# EAGLE library part COLIBRI_SODIMM200_PART (library zz-m-pad-2.1)
TORADEX's <www.toradex.com> Colibri So-Dimm 200 ModuleCDRH2D18/HP Intel XScale®Based SODIMMSizedComputer Colibri is a SODIMMsized computer module based on the new Intel XScale PXA270processor. It runs at up to 520 MHz and consumes as little as 800 mW. The power consumption is optimised using the new Wireless Intel Speedstep Technology. The module delivers state of the art technology, targeting low power systems that still require high CPU performance. It also offers all the interfaces needed in a modern embedded device. The module provides glueless connectivity to passive and active LCDs with resolutions of up to 800x600, as well as 4-wire resistive touch screens. An integrated 16 bit stereo codec allows Colibri to play and recordsound. Colibri can directly connect to a CCDcamera sensor, or take advantage of the new Intel Mobile Scalable Link that offers transfer speeds of upto416Mbps. In addition Colibri offers a 100 MBit Ethernet as well as USB host and USB device functionality. Flexibility andSecondSource Colibri can be scaled to meet specific cost requirements: Assembly options are available for Ethernet, Audio Codec, FLASHsize, RAMsize and CPUspeed. The entire 32 bit wide CPU bus is available for custom extensions, such as special interfaces for high bandwidth applications. Colibri Modules can be used as a replacement for Keith &Koep's Trizeps III / IV family of modules. Colibri comes with a pre-installedoperating systemand state of the art development tools that allow an easy customization of the systemto make it fit specific needs (e.g. LCD settings & timings, integration of customer software and autostarting softwareat startup). Users can therefore concentrate on their actual application without going through the hassle of setting up an operating system. Special drivers are delivered by Toradex on request. Beside the internal Flash memory, there are plenty of interfaces available for data storage: MemoryStick, CompactFlash/PCMCIAandSDCard. Please send any comments to: messi@users.sourceforge.net
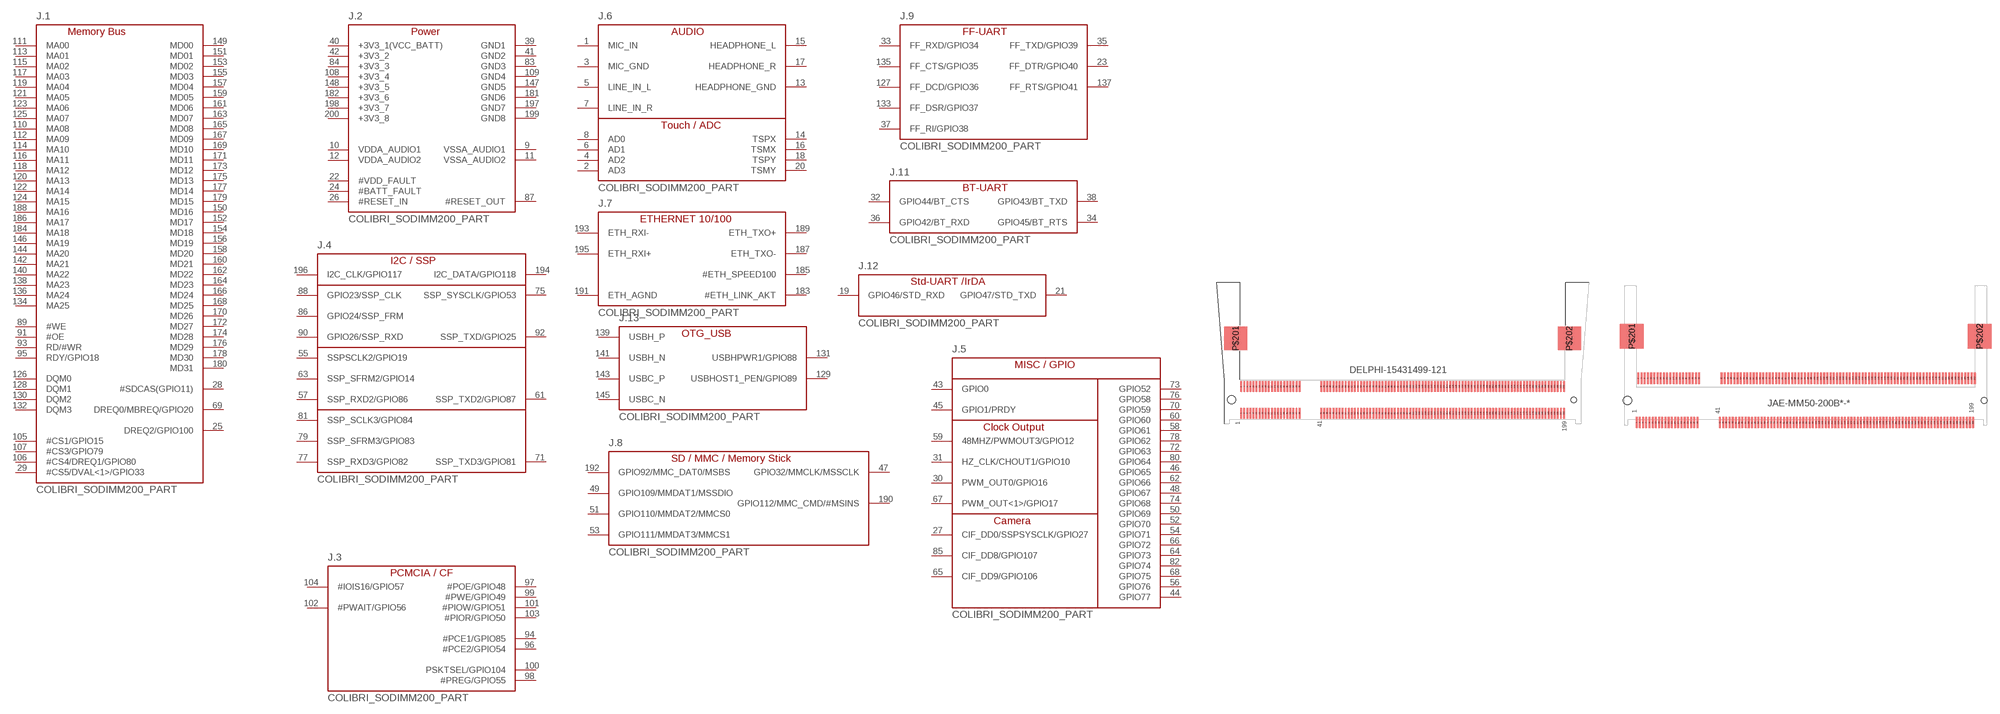
[diagram p78: symbol with the pads of SODIMM200-DELPHI; footprints SODIMM200-DELPHI, SODIMM200-JAE]

Designator prefix J; gates .2=COLIBRI_POWER .6=COLIBRI_AUDIO_TOUCH_ADC .7=COLIBRI_ETHERNET .8=COLIBRI_SD_MMC .11=COLIBRI_BT_UART .12=COLIBRI_STD_UART .3=COLIBRI_PCMCIA .1=COLIBRI_MEM .13=COLIBRI_USB .5=COLIBRI_MISC .9=COLIBRI_FF_UART .4=COLIBRI_I2C_SSP

## COLIBRI_SODIMM200_PART-DELPHI  [SODIMM200-DELPHI]
1  .6:MIC_IN  pas
2  .6:AD3  pas
3  .6:MIC_GND  pas
4  .6:AD2  pas
5  .6:LINE_IN_L  pas
6  .6:AD1  pas
7  .6:LINE_IN_R  pas
8  .6:AD0  pas
9  .2:VSSA_AUDIO1  pas
10  .2:VDDA_AUDIO1  pas
11  .2:VSSA_AUDIO2  pas
12  .2:VDDA_AUDIO2  pas
13  .6:HEADPHONE_GND  pas
14  .6:TSPX  pas
15  .6:HEADPHONE_L  pas
16  .6:TSMX  pas
17  .6:HEADPHONE_R  pas
18  .6:TSPY  pas
19  .12:GPIO46/STD_RXD  pas
20  .6:TSMY  pas
21  .12:GPIO47/STD_TXD  pas
22  .2:#VDD_FAULT  pas
23  .9:FF_DTR/GPIO40  pas
24  .2:#BATT_FAULT  pas
25  .1:DREQ2/GPIO100  pas
26  .2:#RESET_IN  pas
27  .5:CIF_DD0/SSPSYSCLK/GPIO27  pas
28  .1:#SDCAS(GPIO11)  pas
29  .1:#CS5/DVAL<1>/GPIO33  pas
30  .5:PWM_OUT0/GPIO16  pas
31  .5:HZ_CLK/CHOUT1/GPIO10  pas
32  .11:GPIO44/BT_CTS  pas
33  .9:FF_RXD/GPIO34  pas
34  .11:GPIO45/BT_RTS  pas
35  .9:FF_TXD/GPIO39  pas
36  .11:GPIO42/BT_RXD  pas
37  .9:FF_RI/GPIO38  pas
38  .11:GPIO43/BT_TXD  pas
39  .2:GND1  pas
40  .2:+3V3_1(VCC_BATT)  pas
41  .2:GND2  pas
42  .2:+3V3_2  pas
43  .5:GPIO0  pas
44  .5:GPIO77  pas
45  .5:GPIO1/PRDY  pas
46  .5:GPIO65  pas
47  .8:GPIO32/MMCLK/MSSCLK  pas
48  .5:GPIO67  pas
49  .8:GPIO109/MMDAT1/MSSDIO  pas
50  .5:GPIO69  pas
51  .8:GPIO110/MMDAT2/MMCS0  pas
52  .5:GPIO70  pas
53  .8:GPIO111/MMDAT3/MMCS1  pas
54  .5:GPIO71  pas
55  .4:SSPSCLK2/GPIO19  pas
56  .5:GPIO76  pas
57  .4:SSP_RXD2/GPIO86  pas
58  .5:GPIO61  pas
59  .5:48MHZ/PWMOUT3/GPIO12  pas
60  .5:GPIO60  pas
61  .4:SSP_TXD2/GPIO87  pas
62  .5:GPIO66  pas
63  .4:SSP_SFRM2/GPIO14  pas
64  .5:GPIO73  pas
65  .5:CIF_DD9/GPIO106  pas
66  .5:GPIO72  pas
67  .5:PWM_OUT<1>/GPIO17  pas
68  .5:GPIO75  pas
69  .1:DREQ0/MBREQ/GPIO20  pas
70  .5:GPIO59  pas
71  .4:SSP_TXD3/GPIO81  pas
72  .5:GPIO63  pas
73  .5:GPIO52  pas
74  .5:GPIO68  pas
75  .4:SSP_SYSCLK/GPIO53  pas
76  .5:GPIO58  pas
77  .4:SSP_RXD3/GPIO82  pas
78  .5:GPIO62  pas
79  .4:SSP_SFRM3/GPIO83  pas
80  .5:GPIO64  pas
81  .4:SSP_SCLK3/GPIO84  pas
82  .5:GPIO74  pas
83  .2:GND3  pas
84  .2:+3V3_3  pas
85  .5:CIF_DD8/GPIO107  pas
86  .4:GPIO24/SSP_FRM  pas
87  .2:#RESET_OUT  pas
88  .4:GPIO23/SSP_CLK  pas
89  .1:#WE  pas
90  .4:GPIO26/SSP_RXD  pas
91  .1:#OE  pas
92  .4:SSP_TXD/GPIO25  pas
93  .1:RD/#WR  pas
94  .3:#PCE1/GPIO85  pas
95  .1:RDY/GPIO18  pas
96  .3:#PCE2/GPIO54  pas
97  .3:#POE/GPIO48  pas
98  .3:#PREG/GPIO55  pas
99  .3:#PWE/GPIO49  pas
100  .3:PSKTSEL/GPIO104  pas
101  .3:#PIOW/GPIO51  pas
102  .3:#PWAIT/GPIO56  pas
103  .3:#PIOR/GPIO50  pas
104  .3:#IOIS16/GPIO57  pas
105  .1:#CS1/GPIO15  pas
106  .1:#CS4/DREQ1/GPIO80  pas
107  .1:#CS3/GPIO79  pas
108  .2:+3V3_4  pas
109  .2:GND4  pas
110  .1:MA08  pas
111  .1:MA00  pas
112  .1:MA09  pas
113  .1:MA01  pas
114  .1:MA10  pas
115  .1:MA02  pas
116  .1:MA11  pas
117  .1:MA03  pas
118  .1:MA12  pas
119  .1:MA04  pas
120  .1:MA13  pas
121  .1:MA05  pas
122  .1:MA14  pas
123  .1:MA06  pas
124  .1:MA15  pas
125  .1:MA07  pas
126  .1:DQM0  pas
127  .9:FF_DCD/GPIO36  pas
128  .1:DQM1  pas
129  .13:USBHOST1_PEN/GPIO89  pas
130  .1:DQM2  pas
131  .13:USBHPWR1/GPIO88  pas
132  .1:DQM3  pas
133  .9:FF_DSR/GPIO37  pas
134  .1:MA25  pas
135  .9:FF_CTS/GPIO35  pas
136  .1:MA24  pas
137  .9:FF_RTS/GPIO41  pas
138  .1:MA23  pas
139  .13:USBH_P  pas
140  .1:MA22  pas
141  .13:USBH_N  pas
142  .1:MA21  pas
143  .13:USBC_P  pas
144  .1:MA20  pas
145  .13:USBC_N  pas
146  .1:MA19  pas
147  .2:GND5  pas
148  .2:+3V3_5  pas
149  .1:MD00  pas
150  .1:MD16  pas
151  .1:MD01  pas
152  .1:MD17  pas
153  .1:MD02  pas
154  .1:MD18  pas
155  .1:MD03  pas
156  .1:MD19  pas
157  .1:MD04  pas
158  .1:MD20  pas
159  .1:MD05  pas
160  .1:MD21  pas
161  .1:MD06  pas
162  .1:MD22  pas
163  .1:MD07  pas
164  .1:MD23  pas
165  .1:MD08  pas
166  .1:MD24  pas
167  .1:MD09  pas
168  .1:MD25  pas
169  .1:MD10  pas
170  .1:MD26  pas
171  .1:MD11  pas
172  .1:MD27  pas
173  .1:MD12  pas
174  .1:MD28  pas
175  .1:MD13  pas
176  .1:MD29  pas
177  .1:MD14  pas
178  .1:MD30  pas
179  .1:MD15  pas
180  .1:MD31  pas
181  .2:GND6  pas
182  .2:+3V3_6  pas
183  .7:#ETH_LINK_AKT  pas
184  .1:MA18  pas
185  .7:#ETH_SPEED100  pas
186  .1:MA17  pas
187  .7:ETH_TXO-  pas
188  .1:MA16  pas
189  .7:ETH_TXO+  pas
190  .8:GPIO112/MMC_CMD/#MSINS  pas
191  .7:ETH_AGND  pas
192  .8:GPIO92/MMC_DAT0/MSBS  pas
193  .7:ETH_RXI-  pas
194  .4:I2C_DATA/GPIO118  pas
195  .7:ETH_RXI+  pas
196  .4:I2C_CLK/GPIO117  pas
197  .2:GND7  pas
198  .2:+3V3_7  pas
199  .2:GND8  pas
200  .2:+3V3_8  pas

## COLIBRI_SODIMM200_PART-JAE  [SODIMM200-JAE]
Pads as for SODIMM200-DELPHI

## Footprint SODIMM200-DELPHI (pad centres in mm)
smd 0.36 x 2.1: 1 -31.51,-2.6; 2 -31.5,2.6; 3 -30.91,-2.6; 4 -30.9,2.6; 5 -30.31,-2.6; 6 -30.3,2.6; 7 -29.71,-2.6; 8 -29.7,2.6; 9 -29.11,-2.6; 10 -29.1,2.6; 11 -28.51,-2.6; 12 -28.5,2.6; 13 -27.91,-2.6; 14 -27.9,2.6; 15 -27.31,-2.6; 16 -27.3,2.6; 17 -26.71,-2.6; 18 -26.7,2.6; 19 -26.11,-2.6; 20 -26.1,2.6; 21 -25.51,-2.6; 22 -25.5,2.6; 23 -24.91,-2.6; 24 -24.9,2.6; 25 -24.31,-2.6; 26 -24.3,2.6; 27 -23.71,-2.6; 28 -23.7,2.6; 29 -23.11,-2.6; 30 -23.1,2.6; 31 -22.51,-2.6; 32 -22.5,2.6; 33 -21.91,-2.6; 34 -21.9,2.6; 35 -21.31,-2.6; 36 -21.3,2.6; 37 -20.71,-2.6; 38 -20.7,2.6; 39 -20.11,-2.6; 40 -20.1,2.6; 41 -15.9,-2.6; 42 -15.9,2.6; 43 -15.3,-2.6; 44 -15.3,2.6; 45 -14.7,-2.6; 46 -14.7,2.6; 47 -14.1,-2.6; 48 -14.1,2.6; 49 -13.5,-2.6; 50 -13.5,2.6; 51 -12.9,-2.6; 52 -12.9,2.6; 53 -12.3,-2.6; 54 -12.3,2.6; 55 -11.7,-2.6; 56 -11.7,2.6; 57 -11.1,-2.6; 58 -11.1,2.6; 59 -10.5,-2.6; 60 -10.5,2.6; 61 -9.9,-2.6; 62 -9.9,2.6; 63 -9.3,-2.6; 64 -9.3,2.6; 65 -8.7,-2.6; 66 -8.7,2.6; 67 -8.1,-2.6; 68 -8.1,2.6; 69 -7.5,-2.6; 70 -7.5,2.6; 71 -6.9,-2.6; 72 -6.9,2.6; 73 -6.3,-2.6; 74 -6.3,2.6; 75 -5.7,-2.6; 76 -5.7,2.6; 77 -5.1,-2.6; 78 -5.1,2.6; 79 -4.5,-2.6; 80 -4.5,2.6; 81 -3.9,-2.6; 82 -3.9,2.6; 83 -3.3,-2.6; 84 -3.3,2.6; 85 -2.7,-2.6; 86 -2.7,2.6; 87 -2.1,-2.6; 88 -2.1,2.6; 89 -1.5,-2.6; 90 -1.5,2.6; 91 -0.9,-2.6; 92 -0.9,2.6; 93 -0.3,-2.6; 94 -0.3,2.6; 95 0.3,-2.6; 96 0.3,2.6; 97 0.9,-2.6; 98 0.9,2.6; 99 1.5,-2.6; 100 1.5,2.6; 101 2.1,-2.6; 102 2.1,2.6; 103 2.7,-2.6; 104 2.7,2.6; 105 3.3,-2.6; 106 3.3,2.6; 107 3.9,-2.6; 108 3.9,2.6; 109 4.5,-2.6; 110 4.5,2.6; 111 5.1,-2.6; 112 5.1,2.6; 113 5.7,-2.6; 114 5.7,2.6; 115 6.3,-2.6; 116 6.3,2.6; 117 6.9,-2.6; 118 6.9,2.6; 119 7.5,-2.6; 120 7.5,2.6; 121 8.1,-2.6; 122 8.1,2.6; 123 8.7,-2.6; 124 8.7,2.6; 125 9.3,-2.6; 126 9.3,2.6; 127 9.9,-2.6; 128 9.9,2.6; 129 10.5,-2.6; 130 10.5,2.6; 131 11.1,-2.6; 132 11.1,2.6; 133 11.7,-2.6; 134 11.7,2.6; 135 12.3,-2.6; 136 12.3,2.6; 137 12.9,-2.6; 138 12.9,2.6; 139 13.5,-2.6; 140 13.5,2.6; 141 14.1,-2.6; 142 14.1,2.6; 143 14.7,-2.6; 144 14.7,2.6; 145 15.3,-2.6; 146 15.3,2.6; 147 15.9,-2.6; 148 15.9,2.6; 149 16.5,-2.6; 150 16.5,2.6; 151 17.1,-2.6; 152 17.1,2.6; 153 17.7,-2.6; 154 17.7,2.6; 155 18.3,-2.6; 156 18.3,2.6; 157 18.9,-2.6; 158 18.9,2.6; 159 19.5,-2.6; 160 19.5,2.6; 161 20.1,-2.6; 162 20.1,2.6; 163 20.7,-2.6; 164 20.7,2.6; 165 21.3,-2.6; 166 21.3,2.6; 167 21.9,-2.6; 168 21.9,2.6; 169 22.5,-2.6; 170 22.5,2.6; 171 23.1,-2.6; 172 23.1,2.6; 173 23.7,-2.6; 174 23.7,2.6; 175 24.3,-2.6; 176 24.3,2.6; 177 24.9,-2.6; 178 24.9,2.6; 179 25.5,-2.6; 180 25.5,2.6; 181 26.1,-2.6; 182 26.1,2.6; 183 26.7,-2.6; 184 26.7,2.6; 185 27.3,-2.6; 186 27.3,2.6; 187 27.9,-2.6; 188 27.9,2.6; 189 28.5,-2.6; 190 28.5,2.6; 191 29.1,-2.6; 192 29.1,2.6; 193 29.7,-2.6; 194 29.7,2.6; 195 30.3,-2.6; 196 30.3,2.6; 197 30.9,-2.6; 198 30.9,2.6; 199 31.5,-2.6; 200 31.5,2.6
smd 4.5 x 4.6: P$201 -32.55,12; P$202 32.55,12
hole 1.1 at 33.4,0
hole 1.6 at -33.4,0

## Footprint SODIMM200-JAE (pad centres in mm)
JAE-Connector <www.jae-connector.com> So-Dimm 200 Connector MM50 - 200B* - *
smd 0.36 x 2.1: 1 -31.65,-4.15; 2 -31.34,4.15; 3 -31.05,-4.15; 4 -30.74,4.15; 5 -30.45,-4.15; 6 -30.14,4.15; 7 -29.85,-4.15; 8 -29.54,4.15; 9 -29.25,-4.15; 10 -28.94,4.15; 11 -28.65,-4.15; 12 -28.34,4.15; 13 -28.05,-4.15; 14 -27.74,4.15; 15 -27.45,-4.15; 16 -27.14,4.15; 17 -26.85,-4.15; 18 -26.54,4.15; 19 -26.25,-4.15; 20 -25.94,4.15; 21 -25.65,-4.15; 22 -25.34,4.15; 23 -25.05,-4.15; 24 -24.74,4.15; 25 -24.45,-4.15; 26 -24.14,4.15; 27 -23.85,-4.15; 28 -23.54,4.15; 29 -23.25,-4.15; 30 -22.94,4.15; 31 -22.65,-4.15; 32 -22.34,4.15; 33 -22.05,-4.15; 34 -21.74,4.15; 35 -21.45,-4.15; 36 -21.14,4.15; 37 -20.85,-4.15; 38 -20.54,4.15; 39 -20.25,-4.15; 40 -19.94,4.15; 41 -16.04,-4.15; 42 -15.74,4.15; 43 -15.45,-4.15; 44 -15.14,4.15; 45 -14.85,-4.15; 46 -14.54,4.15; 47 -14.25,-4.15; 48 -13.94,4.15; 49 -13.65,-4.15; 50 -13.34,4.15; 51 -13.05,-4.15; 52 -12.74,4.15; 53 -12.45,-4.15; 54 -12.14,4.15; 55 -11.85,-4.15; 56 -11.54,4.15; 57 -11.25,-4.15; 58 -10.94,4.15; 59 -10.65,-4.15; 60 -10.34,4.15; 61 -10.05,-4.15; 62 -9.74,4.15; 63 -9.45,-4.15; 64 -9.14,4.15; 65 -8.85,-4.15; 66 -8.54,4.15; 67 -8.25,-4.15; 68 -7.94,4.15; 69 -7.65,-4.15; 70 -7.34,4.15; 71 -7.05,-4.15; 72 -6.74,4.15; 73 -6.45,-4.15; 74 -6.14,4.15; 75 -5.85,-4.15; 76 -5.54,4.15; 77 -5.25,-4.15; 78 -4.94,4.15; 79 -4.65,-4.15; 80 -4.34,4.15; 81 -4.05,-4.15; 82 -3.74,4.15; 83 -3.45,-4.15; 84 -3.14,4.15; 85 -2.85,-4.15; 86 -2.54,4.15; 87 -2.25,-4.15; 88 -1.94,4.15; 89 -1.65,-4.15; 90 -1.34,4.15; 91 -1.05,-4.15; 92 -0.74,4.15; 93 -0.45,-4.15; 94 -0.14,4.15; 95 0.15,-4.15; 96 0.46,4.15; 97 0.75,-4.15; 98 1.06,4.15; 99 1.35,-4.15; 100 1.66,4.15; 101 1.95,-4.15; 102 2.26,4.15; 103 2.55,-4.15; 104 2.86,4.15; 105 3.15,-4.15; 106 3.46,4.15; 107 3.75,-4.15; 108 4.06,4.15; 109 4.35,-4.15; 110 4.66,4.15; 111 4.95,-4.15; 112 5.26,4.15; 113 5.55,-4.15; 114 5.86,4.15; 115 6.15,-4.15; 116 6.46,4.15; 117 6.75,-4.15; 118 7.06,4.15; 119 7.35,-4.15; 120 7.66,4.15; 121 7.95,-4.15; 122 8.26,4.15; 123 8.55,-4.15; 124 8.86,4.15; 125 9.15,-4.15; 126 9.46,4.15; 127 9.75,-4.15; 128 10.06,4.15; 129 10.35,-4.15; 130 10.66,4.15; 131 10.95,-4.15; 132 11.26,4.15; 133 11.55,-4.15; 134 11.86,4.15; 135 12.15,-4.15; 136 12.46,4.15; 137 12.75,-4.15; 138 13.06,4.15; 139 13.35,-4.15; 140 13.66,4.15; 141 13.95,-4.15; 142 14.26,4.15; 143 14.55,-4.15; 144 14.86,4.15; 145 15.15,-4.15; 146 15.46,4.15; 147 15.75,-4.15; 148 16.06,4.15; 149 16.35,-4.15; 150 16.66,4.15; 151 16.95,-4.15; 152 17.26,4.15; 153 17.55,-4.15; 154 17.86,4.15; 155 18.15,-4.15; 156 18.46,4.15; 157 18.75,-4.15; 158 19.06,4.15; 159 19.35,-4.15; 160 19.66,4.15; 161 19.95,-4.15; 162 20.26,4.15; 163 20.55,-4.15; 164 20.86,4.15; 165 21.15,-4.15; 166 21.46,4.15; 167 21.75,-4.15; 168 22.06,4.15; 169 22.35,-4.15; 170 22.66,4.15; 171 22.95,-4.15; 172 23.26,4.15; 173 23.55,-4.15; 174 23.86,4.15; 175 24.15,-4.15; 176 24.46,4.15; 177 24.75,-4.15; 178 25.06,4.15; 179 25.35,-4.15; 180 25.66,4.15; 181 25.95,-4.15; 182 26.26,4.15; 183 26.55,-4.15; 184 26.86,4.15; 185 27.15,-4.15; 186 27.46,4.15; 187 27.75,-4.15; 188 28.06,4.15; 189 28.35,-4.15; 190 28.66,4.15; 191 28.95,-4.15; 192 29.26,4.15; 193 29.55,-4.15; 194 29.86,4.15; 195 30.15,-4.15; 196 30.46,4.15; 197 30.75,-4.15; 198 31.06,4.15; 199 31.35,-4.15; 200 31.66,4.15
smd 4.5 x 4.6: P$201 -32.55,12; P$202 32.55,12
hole 1.6 at -33.4,0
hole 1.1 at 33.4,0